# Altium schematic symbol library passive.SchLib: 8 symbols
Pins are listed as number, name and electrical type; pins without a type are passive.

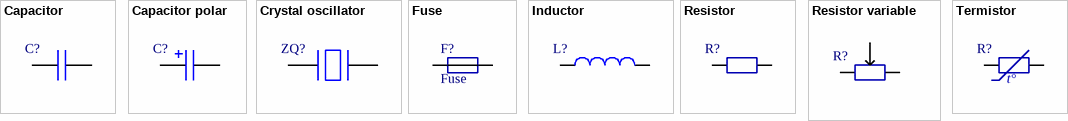
[diagram p0: symbols Capacitor to Termistor]

## Capacitor
designator C?
Non-polarized capacitor
footprint C_0402/1005 (Capacitor, SMD, 0402 (1005 metric))
footprint C_0603/1608 (Capacitor, SMD, 0603 (1608 metric))
footprint C_0805/2012 (Capacitor, SMD, 0805 (2012 metric))
footprint C_1206/3216 (Capacitor, SMD, 1206 (3216 metric))
footprint К73-17
pins: 1, 2

## Capacitor polar
designator C?
Polarized capacitor
footprint C_ELECTROLYTIC_6x35 (Polar capacitor, D16x35 mm)
footprint TECAP_TYPE_A (Tantalum capacitor, Type A, SMD)
footprint TECAP_TYPE_B (Tantalum capacitor, Type B, SMD)
footprint TECAP_TYPE_C (Tantalum capacitor, Type C, SMD)
footprint TECAP_TYPE_D (Tantalum capacitor, Type D, SMD)
footprint ECAP_D4.0x5.4 (Сapacitor, D4.0x5.4, SMD)
footprint ECAP_D5.0x5.4 (Сapacitor, D5.0x5.4, SMD)
footprint ECAP_D6.3x5.4 (Сapacitor, D6.3x5.4, SMD)
footprint ECAP_D8.0x6.5 (Сapacitor, D8.0x6.5, SMD)
footprint ECAP_D8.0x10.5 (Сapacitor, D8.0x10.5, SMD)
footprint ECAP_D10.0x10.5 (Сapacitor, D10.0x10.5, SMD)
pins: 1 POS, 2 NEG

## Crystal oscillator
designator ZQ?
Crystal oscillator
footprint OSC_2PINS SMD (Crystal oscillator, SMD, 2 pins)
footprint OSC_2PIN (Crystal oscillator, 2 pins)
pins: 1, 2

## Fuse
designator F?
pins: 1, 2

## Inductor
designator L?
Inductor
footprint L_30x20x10 (Inductor, radial)
footprint L_30x20x10 _SMD (Inductor, radial)
footprint L_20x15x10 (Inductor, radial)
footprint L_13x13 (Inductor SCDS127T)
footprint L_1006 (Inductor, SMD, 1006)
pins: 1, 2

## Resistor
designator R?
Resistor
footprint R_0402/1005 (Resistor, SMD, 0402 (1005 metric))
footprint R_0603/1608 (Resistor, SMD, 0603 (1608 metric))
footprint R_0805/2012 (Resistor, SMD, 0805 (2012 metric))
footprint R_1206/3216 (Resistor, SMD, 1206 (3216 metric))
footprint R_2512/6332 (Resistor, SMD, 2512 (6332 metric))
footprint R_50W
footprint AXIAL-0.4
pins: 1, 2

## Resistor variable
designator R?
Resistor variable
footprint 3362P-1-100LF (Resistor variable)
footprint R_VAR_3.2x3.2_SMD (Resistor variable)
pins: 1, 2, 3

## Termistor
designator R?
Termistor
footprint R_0805/2012 (Resistor, SMD, 0805 (2012 metric))
footprint R_0402/1005 (Resistor, SMD, 0402 (1005 metric))
footprint R_0603/1608 (Resistor, SMD, 0603 (1608 metric))
footprint R_1206/3216 (Resistor, SMD, 1206 (3216 metric))
footprint HDR_SMD_1X2_1.50 (Pitch 1.50)
pins: 1, 2
text: t°